# Altium footprint library TRANS_TO92_BL.PcbLib: 1 footprints
Each footprint in its own frame and in the unit in brackets; x right, y up, seen from the top. Pads: shape width x height; smd on the part's side, far side on the other; paste and mask are expansions set on the pad; w line width, h text height; cw(c..) or ccw(c..) is an arc to the next point about the centre after c.
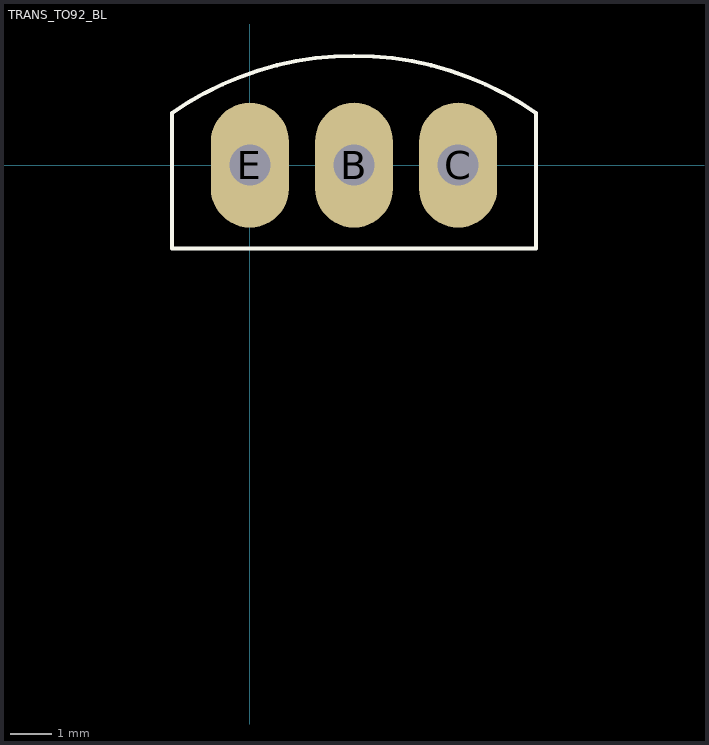
[diagram p0: the footprint, top view; thin cyan lines are the x and y axes]

## TRANS_TO92_BL [mil]
pads (3):
  oval 75x120 hole 39.37: B(100,0) C(200,0) E(0,0)
Top Overlay:
  lines w3.94: -75,-80 -75,50 cw(c100,-200.68) 275,50 275,-80 -75,-80